# Altium footprint library SD_CARD_Micro_Hirose.PcbLib: 1 footprints
Each footprint in its own frame and in the unit in brackets; x right, y up, seen from the top. Pads: shape width x height; smd on the part's side, far side on the other; paste and mask are expansions set on the pad; w line width, h text height; cw(c..) or ccw(c..) is an arc to the next point about the centre after c.
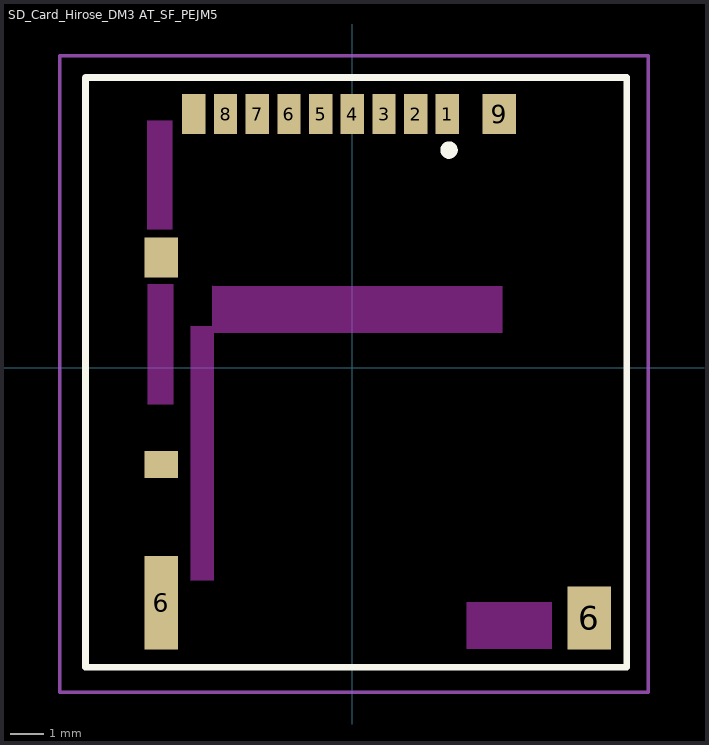
[diagram p0: the footprint, top view; thin cyan lines are the x and y axes]

## SD_Card_Hirose_DM3 AT_SF_PEJM5 [mm]
pads (14):
  rect 0.7x1.2 smd: 1(2.85,7.6) 2(1.9,7.6) 3(0.95,7.6) 4(0,7.6) 5(-0.95,7.6) 6(-1.9,7.6) 7(-2.85,7.6) 8(-3.8,7.6) ""(-4.75,7.6)
  rect 1x2.8 smd: 6(-5.725,-7.05)
  rect 1.3x1.9 smd: 6(7.1,-7.5)
  rect 1x1.2 smd: 9(4.4,7.6) ""(-5.725,3.3)
  rect 1x0.8 smd: ""(-5.725,-2.9)
Top Overlay:
  circle w0.254: c2.9,6.525 r0.135
  lines w0.2: -8,-8.975 8.225,-8.975 8.225,8.7 -8,8.7 -8,-8.975
Keep-Out Layer:
  region: -6.15,4.15 -6.15,7.4 -5.4,7.4 -5.4,4.15
  region: -6.125,-1.1 -6.125,2.5 -5.375,2.5 -5.375,-1.1
  region: -4.85,-6.388 -4.85,1.238 -4.15,1.238 -4.15,-6.362
  region: -4.2,2.457 4.5,2.443 4.5,1.043 -4.2,1.043
  region: 3.425,-7.025 5.975,-7.025 5.975,-8.425 3.425,-8.425
Mechanical 15:
  lines w0.1: -8.775,-9.725 -8.775,9.35 8.875,9.35 8.875,-9.725 -8.775,-9.725
3D body: height 1.72, standoff 0, extent -8.454,-9.425 8.604,9